# Altium schematic symbol library wikiduino-atmega328p.SchLib: 21 symbols
Pins are listed as number, name and electrical type; pins without a type are passive.

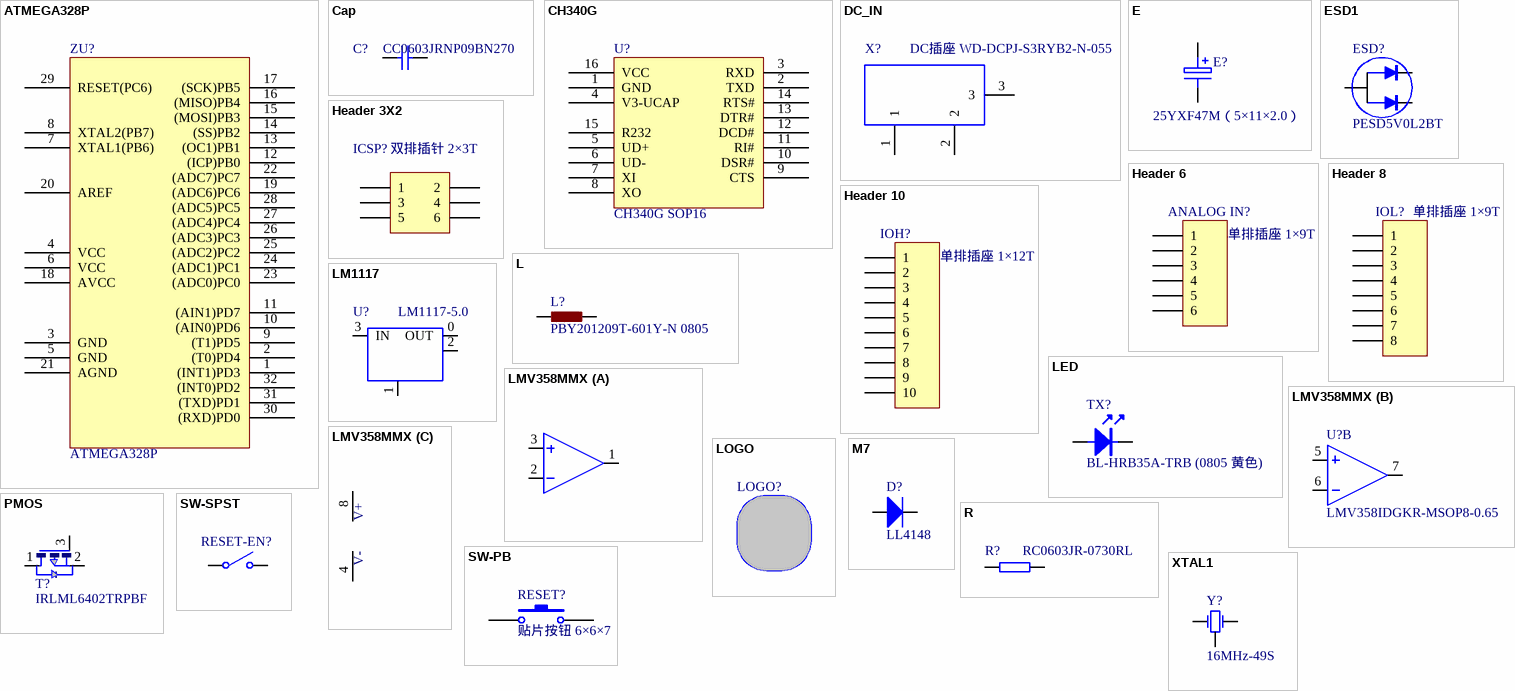
[diagram p0: symbols ATMEGA328P to XTAL1]

## ATMEGA328P
designator ZU?
Arduino ATMEGA328P
footprint LQFP32 (RS_R5F212G4)
pins: 1 (INT1)PD3, 2 (T0)PD4, 3 GND, 4 VCC, 5 GND, 6 VCC, 7 XTAL1(PB6), 8 XTAL2(PB7), 9 (T1)PD5, 10 (AIN0)PD6, 11 (AIN1)PD7, 12 (ICP)PB0, 13 (OC1)PB1, 14 (SS)PB2, 15 (MOSI)PB3, 16 (MISO)PB4, 17 (SCK)PB5, 18 AVCC, 19 (ADC6)PC6, 20 AREF, 21 AGND, 22 (ADC7)PC7, 23 (ADC0)PC0, 24 (ADC1)PC1, 25 (ADC2)PC2, 26 (ADC3)PC3, 27 (ADC4)PC4, 28 (ADC5)PC5, 29 RESET(PC6), 30 (RXD)PD0, 31 (TXD)PD1, 32 (INT0)PD2

## Cap
designator C?, comment CC0603JRNP09BN270
Capacitor; Published: 8-Jun-2000; LatestRevisionDate: 17-Jul-2002; LatestRevisionNote: Re-released for DXP Platform.; PackageReference: RAD-0.3; Publisher: Altium Limited; PackageDescription: Radial Cap, Thru-Hole; 2 Leads; 0.3 in Pin Spacing
footprint 0603C
simulation model CAP (Capacitor)
signal-integrity model Cap
pins: 1, 2

## CH340G
designator U?, comment CH340G SOP16
footprint SO-16
pins: 1 GND, 2 TXD, 3 RXD, 4 V3-UCAP, 5 UD+, 6 UD-, 7 XI, 8 XO, 9 CTS, 10 DSR#, 11 RI#, 12 DCD#, 13 DTR#, 14 RTS#, 15 R232, 16 VCC

## DC_IN
designator X?, comment DC插座 WD-DCPJ-S3RYB2-N-055
POWERSUPPLY_DC21MMX
footprint DC_IN (电源适配器插座)
pins: 1, 2, 3

## E
designator E?, comment 25YXF47M（5×11×2.0）
footprint RB 6.3×11×2.5 (直径*高度*脚距 16YXF100M 10YXF220M)
pins: 1, 2

## ESD1
designator ESD?, comment PESD5V0L2BT
footprint SOT-23
pins: 1, 2, 3

## Header 3X2
designator ICSP?, comment 双排插针 2×3T
Header, 3-Pin, Dual row; LatestRevisionDate: 17-Jul-2002; LatestRevisionNote: Re-released for DXP Platform.; Publisher: Altium Limited
footprint HDR2X3 (Connector; Header; 3x2 Position)
signal-integrity model Connector
pins: 1, 2, 3, 4, 5, 6

## Header 6
designator ANALOG IN?, comment 单排插座 1×9T
Header, 6-Pin; LatestRevisionDate: 17-Jul-2002; LatestRevisionNote: Re-released for DXP Platform.; Publisher: Altium Limited
footprint HDR1X6Z (Connector; Header; 5 Position)
signal-integrity model Connector
pins: 1, 2, 3, 4, 5, 6

## Header 8
designator IOL?, comment 单排插座 1×9T
Header, 8-Pin; LatestRevisionDate: 17-Jul-2002; LatestRevisionNote: Re-released for DXP Platform.; Publisher: Altium Limited
footprint HDR1X8Z (Connector; Header; 8 Position)
signal-integrity model Connector
pins: 1, 2, 3, 4, 5, 6, 7, 8

## Header 10
designator IOH?, comment 单排插座 1×12T
Header, 10-Pin; LatestRevisionDate: 17-Jul-2002; LatestRevisionNote: Re-released for DXP Platform.; Publisher: Altium Limited
footprint HDR1X10Z (Connector; Header; 10 Position)
signal-integrity model Connector
pins: 1, 2, 3, 4, 5, 6, 7, 8, 9, 10

## L
designator L?, comment PBY201209T-601Y-N 0805
BLM21
footprint L0805
pins: 1, 2

## LED
designator TX?, comment BL-HRB35A-TRB (0805 黄色)
footprint LED0805-Y (蓝色)
pins: A, K
2 alternate drawings of the same symbol

## LM1117
designator U?, comment LM1117-5.0
footprint SOT223
pins: 0 OUT, 1 GND/ADJ, 2 OUT@1, 3 IN

## LMV358MMX
designator U?, comment LMV358IDGKR-MSOP8-0.65
footprint MSOP8-0.65 (LMV358IDGKR 3x3mm body, 0.65mm)
part A pins: 1 OUT, 2 -IN, 3 +IN
part B pins: 5 +IN, 6 -IN, 7 OUT
part C pins: 4 V-, 8 V+

## LOGO
designator LOGO?  (value not drawn)
footprint USB_LOGO

## M7
designator D?, comment LL4148
D
footprint D1206
pins: A, K

## PMOS
designator T?, comment IRLML6402TRPBF
footprint MOSFET
pins: 1 D, 2 S, 3 G

## R
designator R?, comment RC0603JR-0730RL
Resistor
footprint 0603R
pins: 1, 2

## SW-PB
designator RESET?, comment 贴片按钮 6×6×7
Switch; Published: 24-Mar-1999; LatestRevisionDate: 17-Jul-2002; LatestRevisionNote: Re-released for DXP Platform.; PackageReference: SPST-2; Publisher: Altium Limited; PackageDescription: Switch; 2 Leads
footprint 按钮/SO
pins: 1, 2

## SW-SPST
designator RESET-EN?
Single-Pole, Single-Throw Switch; Published: 24-Mar-1999; LatestRevisionDate: 17-Jul-2002; LatestRevisionNote: Re-released for DXP Platform.; PackageReference: SPST-2; Publisher: Altium Limited; PackageDescription: Switch; 2 Leads
footprint 0101
pins: 1 COMMON, 2 NO

## XTAL1
designator Y?, comment 16MHz-49S
3pXTAL
footprint XTAL-49S (3p)
pins: 1 OSC1, 2 OSC2, 3